# EAGLE library part LN5623-11 (library mru-led)
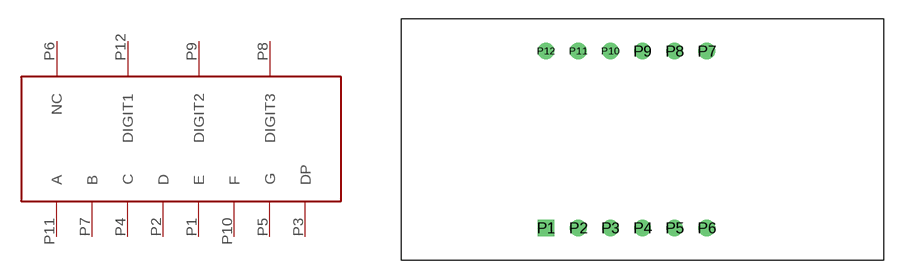
[diagram p0: symbol with the pads of 3-DIGIT-LED; footprint 3-DIGIT-LED]

Designator prefix -

## LN5623-11  [3-DIGIT-LED]
P1  E  out
P2  D  out
P3  DP  out
P4  C  out
P5  G  out
P6  NC  nc
P7  B  out
P8  DIGIT3  in
P9  DIGIT2  in
P10  F  out
P11  A  out
P12  DIGIT1  in

## Footprint 3-DIGIT-LED (pad centres in mm)
ln5623 seven segment three digit display
drill 0.8 square: P1 -7.62,-6.35
drill 0.8 round: P2 -5.08,-6.35; P3 -2.54,-6.35; P4 0,-6.35; P5 2.54,-6.35; P6 5.08,-6.35; P7 5.08,7.62; P8 2.54,7.62; P9 0,7.62; P10 -2.54,7.62; P11 -5.08,7.62; P12 -7.62,7.62